# EAGLE library part BUTLEDCMS (library groovuino1)
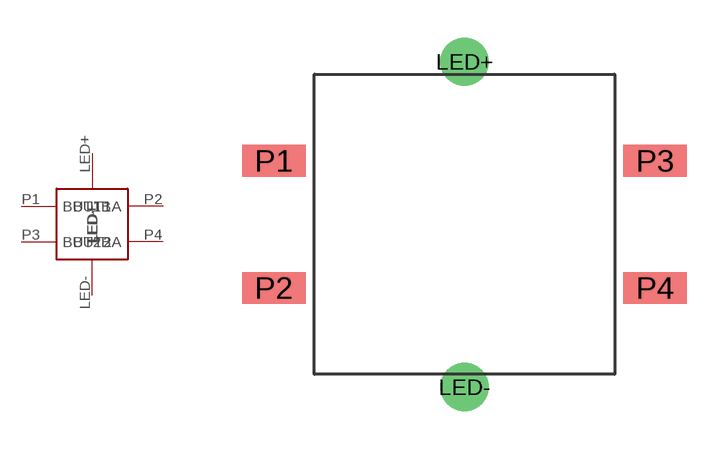
[diagram p1: symbol with the pads of LEDBUTCMS; footprint LEDBUTCMS]

Designator prefix -

## BUTLEDCMS  [LEDBUTCMS]
LED+  LED+
LED-  LED-
P1  BUT1A
P2  BUT1B
P3  BUT2A
P4  BUT2B

## Footprint LEDBUTCMS (pad centres in mm)
drill 1.1 pad 1.93: LED+ 0,6.5; LED- 0,-6.5
smd 2.54 x 1.27: P1 -7.62,2.54; P2 -7.62,-2.54; P3 7.62,2.54; P4 7.62,-2.54